# Altium schematic symbol library ___client_specific_DSG.SchLib: 2 symbols
Pins are listed as number, name and electrical type; pins without a type are passive.

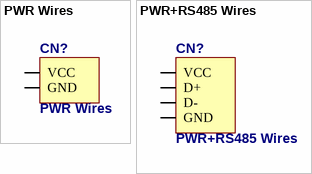
[diagram p0: symbols PWR Wires to PWR+RS485 Wires]

## PWR Wires
designator CN?  (no BOM)
footprint DSSystem_POWER_WIRES (DSSystem POWER Wires)
footprint DSSystem_POWER_GP (DSSystem POWER Wires)
footprint DSSystem_POWER_150V (DSSystem POWER Wires)
pins: 1 VCC, 2 GND

## PWR+RS485 Wires
designator CN?  (no BOM)
footprint DSSystem_RS485 (DSSystem RS485 Wires)
pins: 1 VCC, 2 D+, 3 D-, 4 GND